# EAGLE library part TPS386596 (library lib_stankus)
TI TPS386596 supervisor
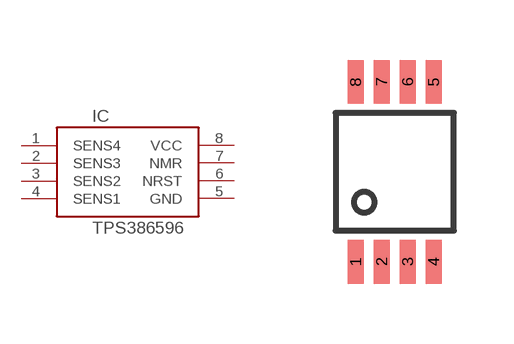
[diagram p51: symbol with the pads of MSOP8; footprint MSOP8]

Designator prefix IC

## TPS386596-MSOP8  [MSOP8]
1  SENS4  pas
2  SENS3  pas
3  SENS2  pas
4  SENS1  pas
5  GND  pas
6  NRST  pas
7  NMR  pas
8  VCC  pas

## Footprint MSOP8 (pad centres in mm)
MSOP8
smd 0.4 x 1.1: 1 -0.975,-2.25; 2 -0.325,-2.25; 3 0.325,-2.25; 4 0.975,-2.25; 5 0.975,2.25; 6 0.325,2.25; 7 -0.325,2.25; 8 -0.975,2.25